# EAGLE library part TNY254GN (library D21_v39)
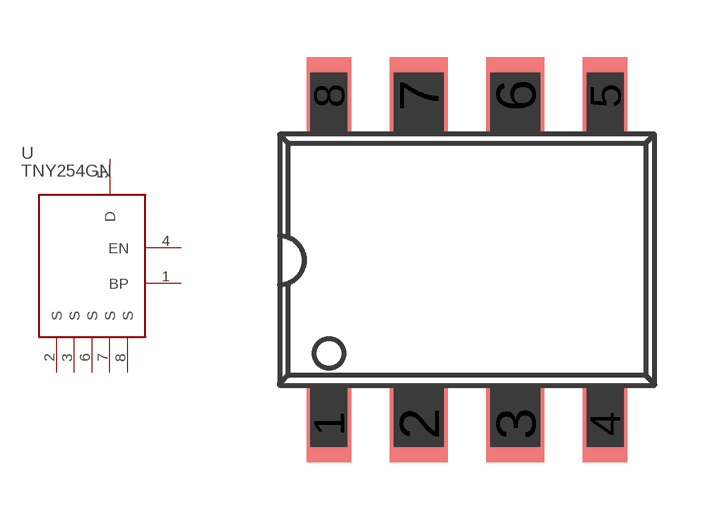
[diagram p11: symbol with the pads of SMD-8; footprint SMD-8]

Designator prefix U

## TNY254GN  [SMD-8]
1  BP  pas
2  S  pwr
3  S  pwr
4  EN  in
5  D  out
6  S  pwr
7  S  pwr
8  S  pwr

## Footprint SMD-8 (pad centres in mm)
smd 1.168 x 2.032: 1 -3.632,-4.318; 4 3.632,-4.318; 5 3.632,4.318; 8 -3.632,4.318
smd 1.524 x 2.032: 2 -1.27,-4.318; 3 1.27,-4.318; 6 1.27,4.318; 7 -1.27,4.318